# EAGLE library part J-HARWIN-M55-70X2042R (library J-Harwin-M55-70X2042R-20pin-1.27mm-M-vertical)
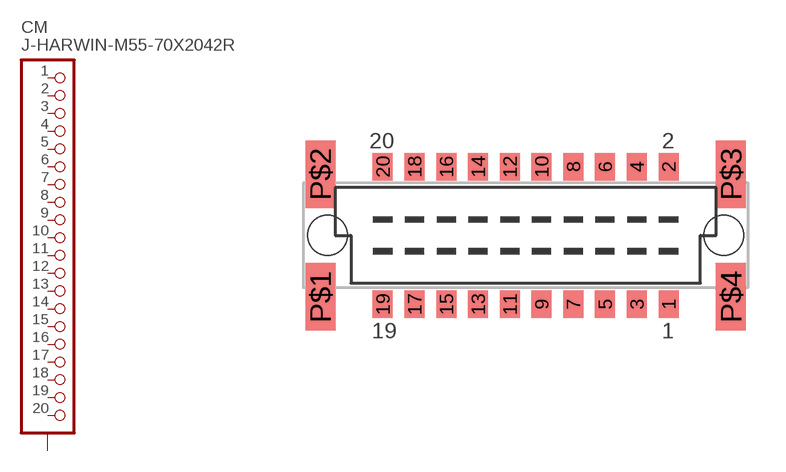
[diagram p0: symbol with the pads of HARWIN-M55-70X2042R; footprint HARWIN-M55-70X2042R]

Designator prefix CM

## J-HARWIN-M55-70X2042R  [HARWIN-M55-70X2042R]
1  1  pas
2  2  pas
3  3  pas
4  4  pas
5  5  pas
6  6  pas
7  7  pas
8  8  pas
9  9  pas
10  10  pas
11  11  pas
12  12  pas
13  13  pas
14  14  pas
15  15  pas
16  16  pas
17  17  pas
18  18  pas
19  19  pas
20  20  pas
P$1  SHIELDS  pas
P$2  SHIELDS  pas
P$3  SHIELDS  pas
P$4  SHIELDS  pas

## Footprint HARWIN-M55-70X2042R (pad centres in mm)
smd 0.8 x 1.1: 1 5.715,-2.75; 2 5.715,2.75; 3 4.445,-2.75; 4 4.445,2.75; 5 3.175,-2.75; 6 3.175,2.75; 7 1.905,-2.75; 8 1.905,2.75; 9 0.635,-2.75; 10 0.635,2.75; 11 -0.635,-2.75; 12 -0.635,2.75; 13 -1.905,-2.75; 14 -1.905,2.75; 15 -3.175,-2.75; 16 -3.175,2.75; 17 -4.445,-2.75; 18 -4.445,2.75; 19 -5.715,-2.75; 20 -5.715,2.75
smd 1.2 x 2.7: P$1 -8.21,-2.45; P$2 -8.21,2.45; P$3 8.21,2.45; P$4 8.21,-2.45
hole 1.6 at -7.925,0
hole 1.6 at 7.925,0